# Altium footprint library 2019-10-21_20-18-25.PcbLib: 1 footprints
Each footprint in its own frame and in the unit in brackets; x right, y up, seen from the top. Pads: shape width x height; smd on the part's side, far side on the other; paste and mask are expansions set on the pad; w line width, h text height; cw(c..) or ccw(c..) is an arc to the next point about the centre after c.
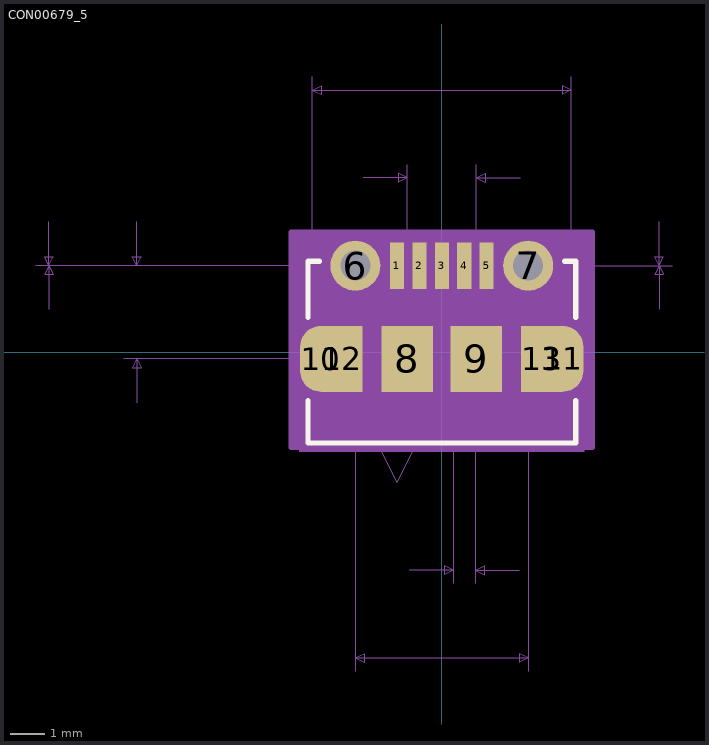
[diagram p0: the footprint, top view; thin cyan lines are the x and y axes]

## CON00679_5 [mil]
pads (13):
  rect 16x53 smd paste+0 mask+0: 1(-51.24,98.57) 2(-25.65,98.57) 3(-0.06,98.57) 4(25.53,98.57) 5(51.12,98.57)
  round 57 hole 34: 6(-98.49,98.57) 7(98.36,98.57)
  rect 59x75 smd: 8(-39.43,-7.73) 9(39.31,-7.73)
  oval 47x75 smd: 10(-137.86,-7.73) 11(137.73,-7.73)
  rect 47.26x75 smd: 12(-114.24,-7.73) 13(114.08,-7.73)
Top Overlay:
  lines w6: -152.56,-55.24 -152.56,-103.43 152.44,-103.43 152.44,-55.24 ; -152.56,39.79 -152.56,103.57 -139.79,103.57 ; 139.66,103.57 152.44,103.57 152.44,39.79
Mechanical 5:
  region: -162.56,113.57 162.44,113.57 162.44,-113.43 -162.56,-113.43
Mechanical 7:
  lines w1: -447.56,48.57 -447.56,98.57 ; -447.56,148.57 -447.56,98.57 ; -362.56,-7.73 -39.43,-7.73 -39.43,213.57 ; -362.56,98.57 -147.56,98.57 ; -347.56,-57.73 -347.56,-7.73 ; -347.56,148.57 -347.56,98.57 ; -147.56,313.57 -147.56,98.57 ; -98.49,-363.43 -98.49,98.57 -462.56,98.57 -147.56,98.57 ; -89.43,198.57 -39.43,198.57 ; -37.27,-248.43 12.73,-248.43 ; -0.06,98.57 262.44,98.57 -147.56,98.57 ; 12.73,-263.43 12.73,98.57 ; 38.32,-263.43 38.32,98.57 ; 39.31,-7.73 39.31,213.57 ; 88.32,-248.43 38.32,-248.43 ; 89.31,198.57 39.31,198.57 ; 98.36,-363.43 98.36,98.57 ; 147.44,98.57 147.44,313.57 ; 247.44,48.57 247.44,98.57 ; 247.44,148.57 247.44,98.57 ; -447.56,98.57 -452.56,108.57 -442.56,108.57 -447.56,98.57 ; -447.56,98.57 -452.56,88.57 -442.56,88.57 -447.56,98.57 ; -347.56,-7.73 -352.56,-17.73 -342.56,-17.73 -347.56,-7.73 ; -347.56,98.57 -352.56,108.57 -342.56,108.57 -347.56,98.57 ; -147.56,298.57 147.44,298.57 ; -147.56,298.57 -137.56,303.57 -137.56,293.57 -147.56,298.57 ; -98.49,-348.43 98.36,-348.43 ; -98.49,-348.43 -88.49,-343.43 -88.49,-353.43 -98.49,-348.43 ; -39.43,198.57 -49.43,203.57 -49.43,193.57 -39.43,198.57 ; 12.73,-248.43 2.73,-243.43 2.73,-253.43 12.73,-248.43 ; 38.32,-248.43 48.32,-243.43 48.32,-253.43 38.32,-248.43 ; 39.31,198.57 49.31,203.57 49.31,193.57 39.31,198.57 ; 98.36,-348.43 88.36,-343.43 88.36,-353.43 98.36,-348.43 ; 147.44,298.57 137.44,303.57 137.44,293.57 147.44,298.57 ; 247.44,98.57 242.44,108.57 252.44,108.57 247.44,98.57 ; 247.44,98.57 242.44,88.57 252.44,88.57 247.44,98.57
  text "Default Padstyle: RX16Y53D0T" at -350.06,-498.43 h50
  text "1st Mounting Padstyle: EX57Y57D34P" at -425.06,-598.43 h50
  text "2nd Mounting Padstyle: RX59Y75D0T" at -412.56,-698.43 h50
  text "3rd Mounting Padstyle: OX47Y75D0T" at -412.56,-798.43 h50
  text "Alt 1 Padstyle: OX60Y90D30P" at -337.56,-998.43 h50
  text "Alt 2 Padstyle: OX90Y60D30P" at -337.56,-1098.43 h50
  text "0.026in/0.65mm" at -61.97,-293.43 h25
  text "0.197in/5mm" at -68.81,-393.43 h25
  text "0.079in/2mm" at -68.81,218.57 h25
  text "0.295in/7.493mm" at -93.81,318.57 h25
  text "0.106in/2.7mm" at -530.06,32.92 h25
  text "0in/0mm" at -555.06,86.07 h25
  text "0in/0mm" at 267.44,86.07 h25
Mechanical 13:
  lines w1: -76.24,-98.43 -51.24,-148.43 -26.24,-98.43 ; -147.56,-98.43 147.44,-98.43 147.44,98.57 -147.56,98.57 -147.56,-98.43
Mechanical 15:
  region: 171.44,136.57 171.44,-108.43 -171.56,-108.43 -171.56,136.57
  region: 147.44,98.57 147.44,-98.43 -147.56,-98.43 -147.56,98.57
  lines w6: -171.56,-108.43 -171.56,136.57 171.44,136.57 171.44,-108.43 -171.56,-108.43 ; -147.56,-98.43 -147.56,98.57 147.44,98.57 147.44,-98.43 -147.56,-98.43
Multi-Layer:
  lines w24: -137.86,-21.23 -137.86,5.77 ; 137.73,-21.23 137.73,5.77
3D body: height 10, standoff 0, extent 0,0 10,10